# EAGLE library part REF5040MDREP (library puggleboard)
LOW-NOISE, VERY LOW DRIFT, PRECISION VOLTAGE REFERENCE
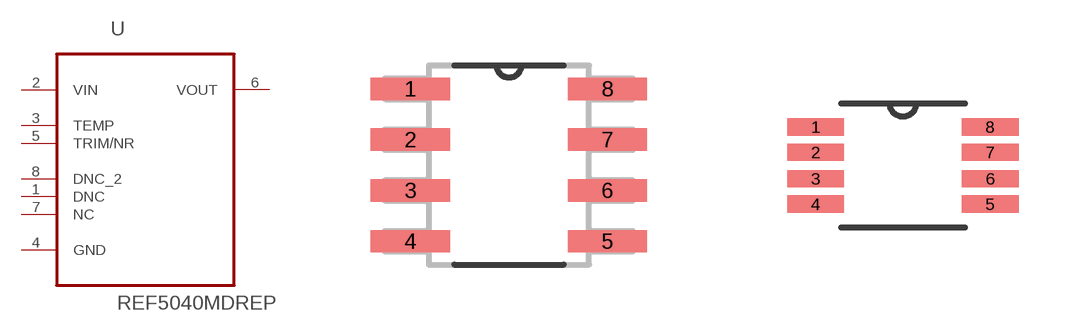
[diagram p11: symbol with the pads of SOIC127P600X175-8N; footprints SOIC127P600X175-8N, SOP65P490X110-8N]

Designator prefix U

## REF5040MDREP (MPN: REF5040MDREP; OC_FARNELL: -; OC_NEWARK: 79R8283; PACKAGE: SOIC-8; SUPPLIER: Texas Instruments)  [SOIC127P600X175-8N]
1  DNC  nc
2  VIN  pwr
3  TEMP  out
4  GND  pas
5  TRIM/NR  in
6  VOUT  out
7  NC  nc
8  DNC_2  nc

## REF5040MDREP_SOP  [SOP65P490X110-8N]
Pads as for SOIC127P600X175-8N

## Footprint SOIC127P600X175-8N (pad centres in mm)
smd 1.981 x 0.559: 1 -2.464,1.905; 2 -2.464,0.635; 3 -2.464,-0.635; 4 -2.464,-1.905; 5 2.464,-1.905; 6 2.464,-0.635; 7 2.464,0.635; 8 2.464,1.905

## Footprint SOP65P490X110-8N (pad centres in mm)
smd 1.422 x 0.432: 1 -2.184,0.965; 2 -2.184,0.33; 3 -2.184,-0.33; 4 -2.184,-0.965; 5 2.184,-0.965; 6 2.184,-0.33; 7 2.184,0.33; 8 2.184,0.965